# Altium footprint library UKLib_PCB.PcbLib: 40 footprints (part 2 of 3)
Each footprint in its own frame and in the unit in brackets; x right, y up, seen from the top. Pads: shape width x height; smd on the part's side, far side on the other; paste and mask are expansions set on the pad; w line width, h text height; cw(c..) or ccw(c..) is an arc to the next point about the centre after c.
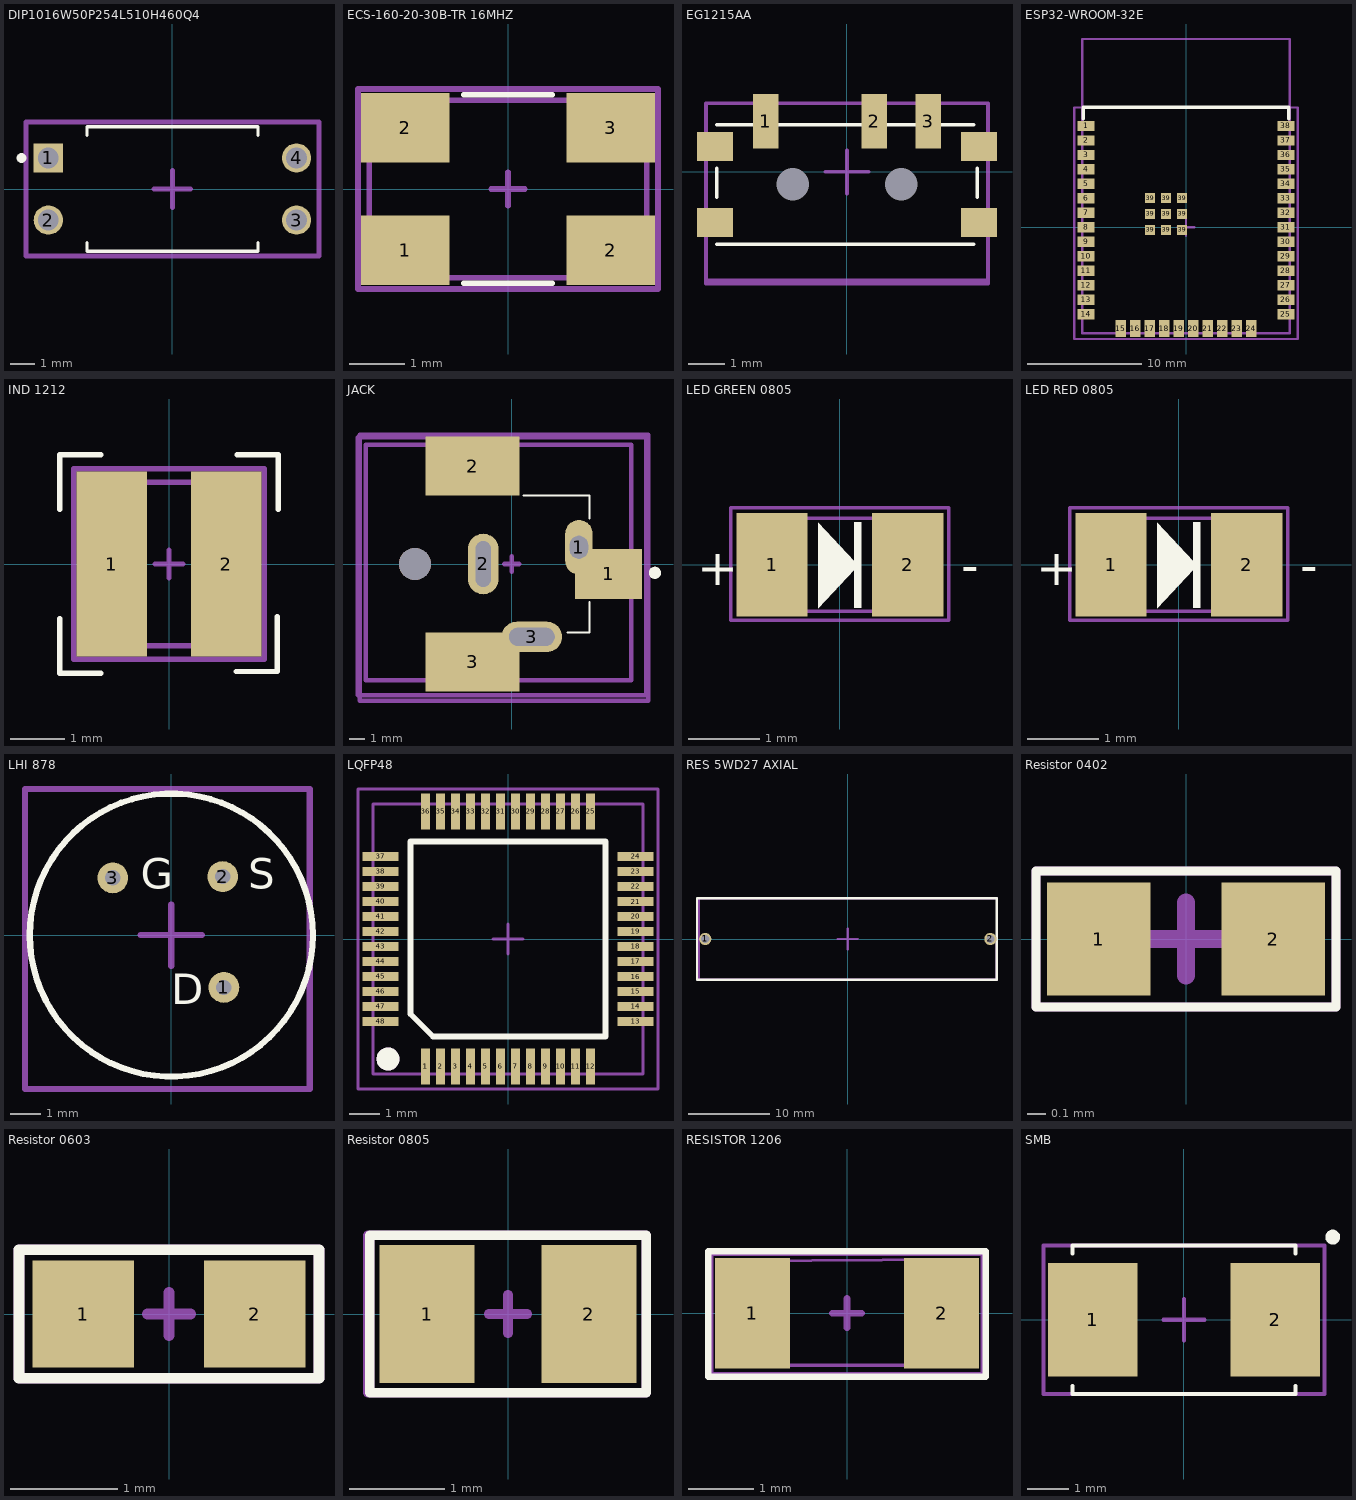
[diagram p1: the footprints below, top view; thin cyan lines are the x and y axes]

## DIP1016W50P254L510H460Q4 [mm]
pads (4):
  rect 1.2x1.2 hole 0.85: 1(-5.08,1.27)
  round 1.2 hole 0.85: 2(-5.08,-1.27) 3(5.08,-1.27) 4(5.08,1.27)
Top Overlay:
  circle w0.2: c-6.18,1.27 r0.1
  lines w0.127: -3.5,-2.2 -3.5,-2.55 3.5,-2.55 3.5,-2.2 ; -3.5,2.2 -3.5,2.55 3.5,2.55 3.5,2.2
Top Component Center:
  lines w0.2: -0.75,0 0.75,0 ; 0,-0.75 0,0.75 ; -6,-2.75 -6,-2.5 -6,2.75 6,2.75 6,-2.75 -6,-2.75
Top Designator:
  lines w0.2: -6,-2.75 -6,-2.5 -6,2.75 6,2.75 6,-2.75 -6,-2.75
  text ".Designator" at -2.4,-1.233 h0.5
3D body "VOT8121AG-V.STP": height 4.02, standoff -2.88, extent -5.21,-2.3 5.21,2.3

## ECS-160-20-30B-TR 16MHZ [mm]
pads (4):
  rect 1.6x1.25 smd mask+0.05: 1(-1.85,-1.1) 2(-1.85,1.1) 2(1.85,-1.1) 3(1.85,1.1)
Top Overlay:
  lines w0.1: -0.8,-1.7 0.8,-1.7 ; -0.8,1.7 0.8,1.7
Top 3D Body:
  lines w0.1: -2.5,-1.6 -2.5,1.6 2.5,1.6 2.5,-1.6 -2.5,-1.6
Top Component Center:
  lines w0.1: -0.3,0 0.3,0 ; 0,-0.3 0,0.3 ; -2.7,-1.8 -2.7,1.8 2.7,1.8 2.7,-1.8 -2.7,-1.8
Top Designator:
  lines w0.1: -2.7,-1.8 -2.7,1.8 2.7,1.8 2.7,-1.8 -2.7,-1.8
  text ".Designator" at -2.346,-0.713 h1
3D body "ECS-160-20-30B-TR.STEP": height 0.86, standoff 0.01, extent -2.5,-1.6 2.5,1.6

## EG1215AA [mm]
pads (9):
  rect 0.7x1.5 smd mask+0.05: 1(-2.25,1.4) 2(0.75,1.4) 3(2.25,1.4)
  rect 1x0.8 smd mask+0.05: ""(-3.65,-1.4) ""(-3.65,0.7) ""(3.65,-1.4) ""(3.65,0.7)
  round 0 hole 0.9 mask+0.05: ""(-1.5,-0.35) ""(1.5,-0.35)
Top Overlay:
  lines w0.1: -3.6,-2 3.5,-2 ; -3.6,-0.7 -3.6,0.1 ; -3.6,1.3 3.5,1.3 ; 3.6,-0.7 3.6,0.1
Top 3D Body:
  lines w0.1: -3.9,-3 -3.9,1.9 3.9,1.9 3.9,-3 -3.9,-3
Top Component Center:
  lines w0.1: -0.6,0 0.6,0 ; 0,-0.6 0,0.6 ; -3.9,-3.1 -3.9,1.9 3.9,1.9 3.9,-3.1 -3.9,-3.1
Top Designator:
  lines w0.1: -3.9,-3 3.9,-3 3.9,1.9 -3.9,1.9 -3.9,-3
  text ".Designator" at -2.946,-1.138 h1.52
3D body "EG1215AA.STEP": height 1.41, standoff -0.29, extent -3.85,-3.05 3.85,1.85

## ESP32­WROOM­32E [mm]
pads (47):
  rect 1.5x0.9 smd mask+0.05: 1(-8.75,8.88) 2(-8.75,7.61) 3(-8.75,6.34) 4(-8.75,5.07) 5(-8.75,3.8) 6(-8.75,2.53) 7(-8.75,1.26) 8(-8.75,-0.01) 9(-8.75,-1.28) 10(-8.75,-2.55) 11(-8.75,-3.82) 12(-8.75,-5.09) 13(-8.75,-6.36) 14(-8.75,-7.63) 25(8.75,-7.63) 26(8.75,-6.36) 27(8.75,-5.09) 28(8.75,-3.82) 29(8.75,-2.55) 30(8.75,-1.28) 31(8.75,-0.01) 32(8.75,1.26) 33(8.75,2.53) 34(8.75,3.8) 35(8.75,5.07) 36(8.75,6.34) 37(8.75,7.61) 38(8.75,8.88)
  rect 0.9x1.5 smd mask+0.05: 15(-5.715,-8.88) 16(-4.445,-8.88) 17(-3.175,-8.88) 18(-1.905,-8.88) 19(-0.635,-8.88) 20(0.635,-8.88) 21(1.905,-8.88) 22(3.175,-8.88) 23(4.445,-8.88) 24(5.715,-8.88)
  rect 0.9x0.9 smd mask+0.05: 39(-3.15,-0.24) 39(-3.15,1.16) 39(-3.15,2.56) 39(-1.75,-0.24) 39(-1.75,1.16) 39(-1.75,2.56) 39(-0.35,-0.24) 39(-0.35,1.16) 39(-0.35,2.56)
Top Overlay:
  lines w0.3: -9,9.5 -9,10.5 9,10.5 9,9.5
Top 3D Body:
  lines w0.2: -9.1,-9.3 9.1,-9.3 9.1,16.5 -9.1,16.5 -9.1,-9.3
Top Component Center:
  lines w0.2: -0.75,0 0.75,0 ; 0,-0.75 0,0.75 ; -9.8,-9.8 9.8,-9.8 9.8,10.5 -9.8,10.5 -9.8,-9.8
Top Designator:
  lines w0.2: -9.8,-9.8 9.8,-9.8 9.8,10.5 -9.8,10.5 -9.8,-9.8
  text ".Designator" at -2.746,2.512 h1.52
3D body "ESP32-WROOM-32E 3D Model.STEP": height 3.1, standoff 0, extent -9,-9.15 9,16.35

## IND 1212 [mm]
pads (2):
  rect 1.3x3.4 smd mask+0.05: 1(-1.05,0) 2(1.05,0)
Top Overlay:
  lines w0.1: -2,-1 -2,-2 -1.25,-2 ; -2,1 -2,2 -1.25,2 ; 1.232,-1.971 1.982,-1.971 1.982,-0.971 ; 1.25,2 2,2 2,1
Top 3D Body:
  lines w0.1: -1.5,-1.5 1.5,-1.5 1.5,1.5 -1.5,1.5 -1.5,-1.5
Top Component Center:
  lines w0.1: -0.25,0 0.25,0 ; 0,-0.25 0,0.25 ; -1.75,-1.75 1.75,-1.75 1.75,1.75 -1.75,1.75 -1.75,-1.75
Top Designator:
  lines w0.1: -1.75,-1.75 1.75,-1.75 1.75,1.75 -1.75,1.75 -1.75,-1.75
  text ".Designator" at -1.4,-0.233 h0.5
3D body "78438335010_IND_1212.stp": height 1.21, standoff 0.01, extent -1.5,-1.5 1.5,1.5

## JACK [mm]
pads (7):
  oval 1.8x3.6 hole 1.2 slot 1.5 at 90 deg: 1(4.425,1.1)
  rect 4.4x3.3 smd: 1(6.375,-0.65)
  rect 6.2x3.9 smd: 2(-2.575,6.45) 3(-2.575,-6.45)
  oval 2x4 hole 1 slot 3 at 90 deg: 2(-1.875,0)
  oval 4x2 hole 1.2 slot 3 at 0 deg: 3(1.325,-4.8)
  round 2.1 hole 2.1 unplated: ""(-6.375,0)
Top Overlay:
  circle w0.4: c9.435,-0.58 r0.2
  lines w0.127: 0.775,4.5 5.125,4.5 5.125,3 ; 3.675,-4.5 5.125,-4.5 5.125,-2.5
Top 3D Body:
  lines w0.3: -9.625,-7.65 7.875,-7.65 7.875,7.85 -9.625,7.85 -9.625,-7.65
Top Component Center:
  lines w0.3: -0.5,0 0.5,0 ; 0,-0.5 0,0.5 ; -10.125,-8.65 8.875,-8.65 8.875,8.35 -9.625,8.35 -10.125,8.35 -10.125,-8.65
Top Designator:
  lines w0.3: -10,-9 -10,8.5 9,8.5 9,-9 -10,-9
  text ".Designator" at -5.246,-2.913 h1
3D body "CUI_DEVICES_PJ-037AH-SMT-TR.step": height 11.11, standoff -3.29, extent -9.275,-7.55 7.825,7.65

## LED GREEN 0805 [mm]
pads (2):
  rect 1x1.45 smd mask+0.05: 1(-0.95,0) 2(0.95,0)
Top Overlay:
  region: 0.2,-0.066 0.2,0.054 -0.3,0.593 -0.3,-0.607
  region: 0.2,0.6 0.2,-0.6 0.3,-0.6 0.3,0.6
  text "-" at 1.7,-0.25 h0.5
  text "+" at -2,-0.283 h0.5
Top 3D Body:
  lines w0.05: -1.025,-0.65 1.025,-0.65 1.025,0.65 -1.025,0.65 -1.025,-0.65
Top Component Center:
  lines w0.05: -0.15,0 0.15,0 ; 0,-0.15 0,0.15 ; -1.525,-0.775 1.525,-0.775 1.525,0.8 -1.525,0.8 -1.525,-0.775
Top Designator:
  lines w0.05: -1.525,-0.775 -1.525,0.8 1.525,0.8 1.525,-0.775 -1.525,-0.775
  text ".Designator" at -1.225,-0.358 h0.5
3D body "LTST-C171GKT--3DModel-STEP-510211.STEP": height 0.8, standoff 0, extent -1,-0.625 1,0.625

## LED RED 0805 [mm]
pads (2):
  rect 1x1.45 smd mask+0.05: 1(-0.95,0) 2(0.95,0)
Top Overlay:
  region: 0.2,0.6 0.2,-0.6 0.3,-0.6 0.3,0.6
  region: 0.2,-0.066 0.2,0.054 -0.3,0.593 -0.3,-0.607
  text "+" at -2,-0.283 h0.5
  text "-" at 1.7,-0.25 h0.5
Top 3D Body:
  lines w0.05: -1.025,-0.65 -1.025,0.65 1.025,0.65 1.025,-0.65 -1.025,-0.65
Top Component Center:
  lines w0.05: -0.15,0 0.15,0 ; 0,-0.15 0,0.15 ; -1.525,-0.775 -1.525,0.8 1.525,0.8 1.525,-0.775 -1.525,-0.775
Top Designator:
  lines w0.05: -1.525,-0.775 1.525,-0.775 1.525,0.8 -1.525,0.8 -1.525,-0.775
  text ".Designator" at -1.225,-0.358 h0.5
3D body "LTST-C171GKT--3DModel-STEP-510211.STEP": height 0.8, standoff 0, extent -1,-0.625 1,0.625

## LHI 878 [mm]
pads (3):
  round 1 hole 0.5 mask+0.05: 1(1.71,-1.7) 2(1.67,1.905) 3(-1.9,1.86)
Top Overlay:
  circle w0.2: c0,0 r4.6
  text "D" at 0.004,-2.246 h1
  text "S" at 2.504,1.504 h1
  text "G" at -0.996,1.504 h1
Top 3D Body:
  lines w0.2: -4.75,-5 4.5,-5 4.5,4.75 -4.75,4.75 -4.75,-5
Top Component Center:
  lines w0.2: -1,0 1,0 ; 0,-1 0,1 ; -4.75,-5 -4.75,4.75 ; -4.75,-5 4.5,-5 ; -4.75,-5 -4.75,4.75 ; -4.75,-5 4.5,-5 ; -4.75,4.75 4.5,4.75 ; -4.75,4.75 4.5,4.75 ; 4.5,-5 4.5,4.75 ; 4.5,-5 4.5,4.75
Top Designator:
  lines w0.2: -4.75,-5 -4.75,4.75 ; -4.75,-5 4.5,-5 ; -4.75,-5 -4.75,4.75 ; -4.75,-5 4.5,-5 ; -4.75,4.75 4.5,4.75 ; -4.75,4.75 4.5,4.75 ; 4.5,-5 4.5,4.75 ; 4.5,-5 4.5,4.75
  text ".Designator" at -2.996,-0.738 h1.52
3D body "LHI878.step": height 4.6, standoff -2.4, extent -4.7,-4.939 4.5,4.69

## LQFP48 [mm] "LQFP48, 7 x 7 mm, 48-pin low-profile quad flat / package 1.6mm"
pads (49):
  rect 0.3x1.2 smd mask+0.05: 1(-2.75,-4.25) 1(-2.75,-4.25) 2(-2.25,-4.25) 3(-1.75,-4.25) 4(-1.25,-4.25) 5(-0.75,-4.25) 6(-0.25,-4.25) 7(0.25,-4.25) 8(0.75,-4.25) 9(1.25,-4.25) 10(1.75,-4.25) 11(2.25,-4.25) 12(2.75,-4.25) 25(2.75,4.25) 26(2.25,4.25) 27(1.75,4.25) 28(1.25,4.25) 29(0.75,4.25) 30(0.25,4.25) 31(-0.25,4.25) 32(-0.75,4.25) 33(-1.25,4.25) 34(-1.75,4.25) 35(-2.25,4.25) 36(-2.75,4.25)
  rect 1.2x0.3 smd mask+0.05: 13(4.25,-2.75) 14(4.25,-2.25) 15(4.25,-1.75) 16(4.25,-1.25) 17(4.25,-0.75) 18(4.25,-0.25) 19(4.25,0.25) 20(4.25,0.75) 21(4.25,1.25) 22(4.25,1.75) 23(4.25,2.25) 24(4.25,2.75) 37(-4.25,2.75) 38(-4.25,2.25) 39(-4.25,1.75) 40(-4.25,1.25) 41(-4.25,0.75) 42(-4.25,0.25) 43(-4.25,-0.25) 44(-4.25,-0.75) 45(-4.25,-1.25) 46(-4.25,-1.75) 47(-4.25,-2.25) 48(-4.25,-2.75)
Top Overlay:
  circle w0.254: c-4,-4 r0.254
  region: -4.25,-3.75 -3.75,-3.75 -3.75,-3.996 -3.746,-4 -3.75,-4.004 -3.75,-4.25 -4.25,-4.25
  lines w0.2: -3.25,-2.5 -2.5,-3.25 3.25,-3.25 3.25,3.25 -3.25,3.25 -3.25,-2.5
Top 3D Body:
  circle w0.254: c-4,-4 r0.254
  region: -4.244,-3.751 -3.744,-3.751 -3.744,-3.997 -3.74,-4.001 -3.744,-4.005 -3.744,-4.251 -4.244,-4.251
  lines w0.1: -4.5,-4.5 -4.5,4.5 4.5,4.5 4.5,-4.5 -4.5,-4.5
Top Component Center:
  lines w0.1: -0.5,0 0.5,0 ; 0,-0.5 0,0.5 ; -5,-5 5,-5 5,5 -5,5 -5,-5
Top Designator:
  lines w0.1: -5,-5 5,-5 5,5 -5,5 -5,-5
  text ".Designator" at -2.368,-0.508 h1.52
3D body "LQFP48_7x7_1.6mm_Grid_0_5.STEP": height 1.6, standoff 0, extent -4.5,-4.5 4.5,4.5

## RES 5WD27 AXIAL [mm]
pads (2):
  round 1.5 hole 1 mask+0.05: 1(-17.487,0) 2(17.488,0)
Top Overlay:
  lines w0.3: -18.5,-5 18.25,-5 18.25,5 -18.5,5 -18.5,-5
Top 3D Body:
  lines w0.3: -18.325,-5 18.3,-5 ; -18.325,5 18.3,5 18.3,-4.975 ; -18.3,-4.975 -18.3,5
Top Component Center:
  lines w0.3: -1.25,0 1.25,0 ; 0,-1.25 0,1.25 ; -18.35,-5 18.275,-5 18.3,4.975 -18.325,4.975 -18.35,-5
Top Designator:
  lines w0.3: -18.35,-5 18.275,-5 18.3,4.975 -18.325,4.975 -18.35,-5
  text ".Designator" at -6.996,-0.738 h1.52
3D body "5WD27.step": height 9.65, standoff -6.17, extent -17.912,-4.8 17.888,4.85

## Resistor 0402 [mm]
pads (2):
  rect 0.57x0.62 smd mask+0.05: 1(-0.48,0) 2(0.48,0)
Top Overlay:
  lines w0.05: -0.825,-0.375 -0.825,0.375 0.825,0.375 0.825,-0.375 -0.825,-0.375
Top Component Center:
  lines w0.05: -0.825,-0.375 -0.825,0.375 0.825,0.375 0.825,-0.375 -0.825,-0.375
  lines w0.1: -0.2,0 0.2,0 ; 0,-0.2 0,0.2
Top Designator:
  lines w0.05: -0.825,-0.375 0.825,-0.375 0.825,0.375 -0.825,0.375 -0.825,-0.375
  text ".Designator" at -0.8,-0.233 h0.5
3D body "R0402.STEP": height 0.36, standoff 0.01, extent -0.5,-0.25 0.5,0.25

## Resistor 0603 [mm]
pads (2):
  rect 0.95x1 smd mask+0.05: 1(-0.8,0) 2(0.8,0)
Top Overlay:
  lines w0.1: -1.4,-0.6 -1.4,0.6 1.4,0.6 1.4,-0.6 -1.4,-0.6
Top Component Center:
  lines w0.1: -0.2,0 0.2,0 ; 0,-0.2 0,0.2 ; -1.4,-0.6 -1.4,0.6 1.4,0.6 1.4,-0.6 -1.4,-0.6
Top Designator:
  lines w0.1: -1.4,-0.6 -1.4,0.6 1.4,0.6 1.4,-0.6 -1.4,-0.6
  text ".Designator" at -0.8,-0.233 h0.5
3D body "R0603.STEP": height 0.48, standoff 0.01, extent -1.303,-0.668 1.303,0.668

## Resistor 0805 [mm]
pads (2):
  rect 1x1.45 smd mask+0.05: 1(-0.85,0) 2(0.85,0)
Top Overlay:
  lines w0.1: -1.45,-0.825 -1.45,0.825 1.45,0.825 1.45,-0.825 -1.45,-0.825
Top Component Center:
  lines w0.1: -0.2,0 0.2,0 ; 0,-0.2 0,0.2 ; -1.45,-0.825 -1.45,0.825 1.45,0.825 1.45,-0.825 -1.45,-0.825
Top Designator:
  lines w0.1: -1.475,-0.825 -1.475,0.825 1.45,0.825 1.45,-0.825 -1.475,-0.825
  text ".Designator" at -0.8,-0.233 h0.5
3D body "SMD_0805.STEP": height 0.51, standoff 0.01, extent -1,-0.6 1,0.6

## RESISTOR 1206 [mm]
pads (2):
  rect 1.15x1.7 smd mask+0.05: 1(-1.45,0) 2(1.45,0)
Top Overlay:
  lines w0.1: -2.125,-0.975 2.125,-0.975 2.125,0.95 -2.125,0.95 -2.125,-0.975
Top 3D Body:
  lines w0.05: -1.625,-0.8 1.625,-0.8 1.625,0.825 -1.625,0.8 -1.625,-0.8
Top Component Center:
  lines w0.1: -0.225,0 0.225,0 ; 0,-0.225 0,0.225 ; -2.1,-0.95 2.1,-0.95 2.1,0.925 -2.1,0.925 -2.1,-0.95
Top Designator:
  lines w0.1: -2.1,-0.95 2.1,-0.95 2.1,0.925 -2.1,0.925 -2.1,-0.95
  text ".Designator" at -1.925,-0.442 h1
3D body "R1206.STEP": height 0.57, standoff 0.01, extent -2.303,-1.053 2.303,1.053

## SMB [mm]
pads (2):
  rect 2.159x2.743 smd mask+0.05: 1(-2.21,0) 2(2.21,0)
Top Overlay:
  lines w0.1: -2.7,-1.6 -2.7,-1.8 2.7,-1.8 2.7,-1.6 ; -2.7,1.6 -2.7,1.8 2.7,1.8 2.7,1.6
  lines w0.2: 3.67,2.037 ccw(c3.6,2) 3.679,2
Top Component Center:
  lines w0.1: -0.5,0 0.5,0 ; 0,-0.5 0,0.5 ; -3.4,-1.8 3.4,-1.8 3.4,1.8 -3.4,1.8 -3.4,-1.8
Top Designator:
  lines w0.1: -3.4,-1.8 3.4,-1.8 3.4,1.8 -3.4,1.8 -3.4,-1.8
  text ".Designator" at -2.5,-0.133 h0.5
3D body "1SMB5919BT3G.STEP": height 2.48, standoff 0.01, extent -2.72,-1.78 2.72,1.78